# EAGLE library part ADC128D818 (library RitLaunchInitiative)
8 Channel i2c ADC. Pseudo-Differential, Single Ended| 3 V ~ 5.5 V| http://www.ti.com/lit/ds/symlink/adc128d818.pdf
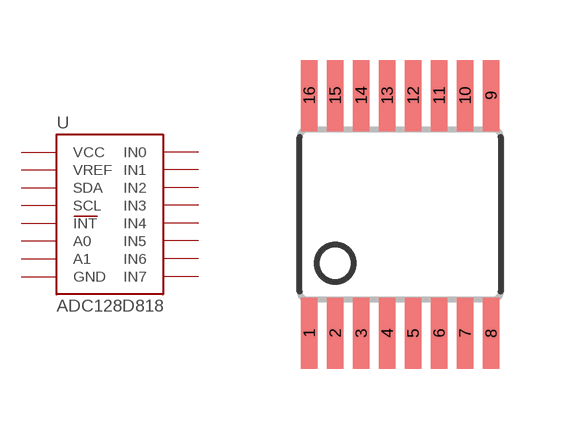
[diagram p13: symbol with the pads of 16-TSSOP; footprint 16-TSSOP]

Designator prefix U

## ADC128D818 (DIGI: 296-41182-1-ND; MPN: ADC128D818CIMTX/NOPB)  [16-TSSOP]
1  VREF
2  SDA
3  SCL
4  GND
5  VCC
6  INT
7  A0
8  A1
9  IN7
10  IN6
11  IN5
12  IN4
13  IN3
14  IN2
15  IN1
16  IN0

## Footprint 16-TSSOP (pad centres in mm)
smd 0.42 x 1.78: 1 -2.275,-2.97; 2 -1.625,-2.97; 3 -0.975,-2.97; 4 -0.325,-2.97; 5 0.325,-2.97; 6 0.975,-2.97; 7 1.625,-2.97; 8 2.275,-2.97; 9 2.275,2.97; 10 1.625,2.97; 11 0.975,2.97; 12 0.325,2.97; 13 -0.325,2.97; 14 -0.975,2.97; 15 -1.625,2.97; 16 -2.275,2.97